# EAGLE library part MCP23S09-E/SO (library Microchip2)
8-Bit I/O Expander
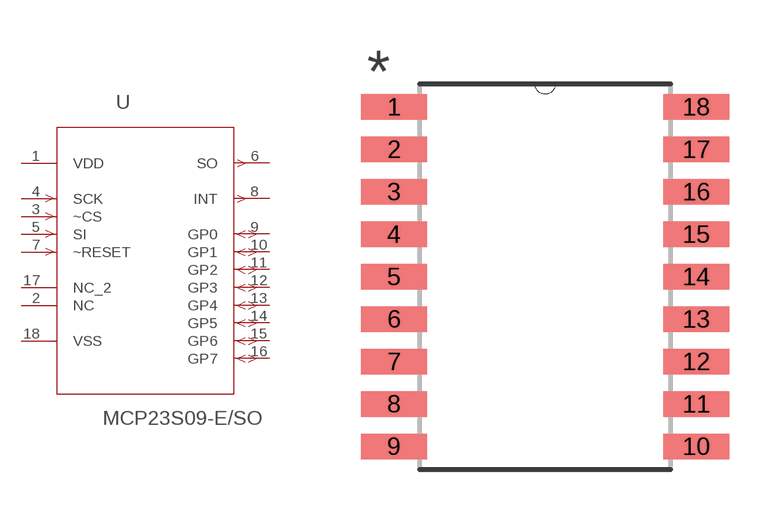
[diagram p0: symbol with the pads of SOIC127P1030X265-18N; footprint SOIC127P1030X265-18N]

Designator prefix -

## MCP23S09-E/SO (DESCRIPTION: IC I/O EXPANDER; MPN: McP23S09-E/SO; OC_FARNELL: 1699844; OC_NEWARK: 04R7657; PACKAGE: SOIC-18; SUPPLIER: Microchip)  [SOIC127P1030X265-18N]
1  VDD  pwr
2  NC  nc
3  ~CS  in
4  SCK  in
5  SI  in
6  SO  out
7  ~RESET  in
8  INT  out
9  GP0
10  GP1
11  GP2
12  GP3
13  GP4
14  GP5
15  GP6
16  GP7
17  NC_2  nc
18  VSS  pwr

## Footprint SOIC127P1030X265-18N (pad centres in mm)
smd 1.981 x 0.762: 1 -4.521,5.08; 2 -4.521,3.81; 3 -4.521,2.54; 4 -4.521,1.27; 5 -4.521,0; 6 -4.521,-1.27; 7 -4.521,-2.54; 8 -4.521,-3.81; 9 -4.521,-5.08; 10 4.521,-5.08; 11 4.521,-3.81; 12 4.521,-2.54; 13 4.521,-1.27; 14 4.521,0; 15 4.521,1.27; 16 4.521,2.54; 17 4.521,3.81; 18 4.521,5.08